# EAGLE library part HEADER-13P (library Deegou_Connector)
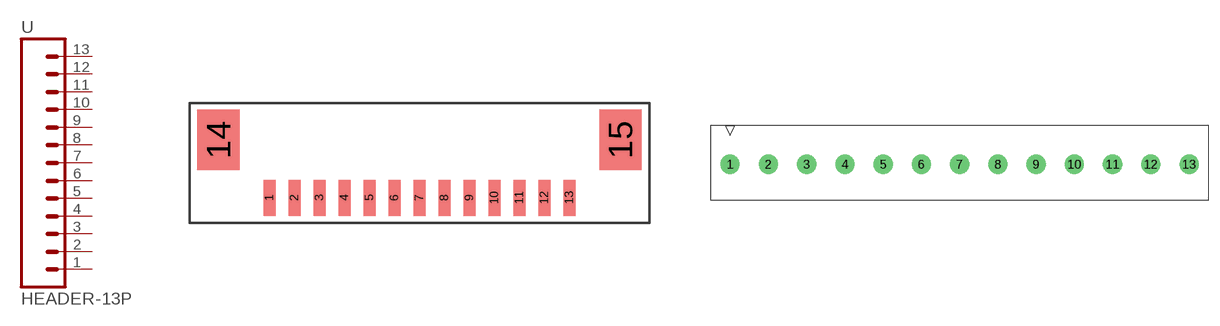
[diagram p13: symbol with the pads of 1.25MM-13P; footprints 1.25MM-13P, 13P-SCREW-5.08]

Designator prefix -

## HEADER-13P-1.25MM  [1.25MM-13P]
1  1  pas
2  2  pas
3  3  pas
4  4  pas
5  5  pas
6  6  pas
7  7  pas
8  8  pas
9  9  pas
10  10  pas
11  11  pas
12  12  pas
13  13  pas

## HEADER-13P  [13P-SCREW-5.08]
Pads as for 1.25MM-13P

## Footprint 1.25MM-13P (pad centres in mm)
smd 0.6 x 1.8: 1 -7.5,0; 2 -6.25,0; 3 -5,0; 4 -3.75,0; 5 -2.5,0; 6 -1.25,0; 7 0,0; 8 1.25,0; 9 2.5,0; 10 3.75,0; 11 5,0; 12 6.25,0; 13 7.5,0
smd 2.1 x 3: 14 -10.05,2.9; 15 10.05,2.9

## Footprint 13P-SCREW-5.08 (pad centres in mm)
drill 1.4 pad 2.54: 1 -25.4,0; 2 -20.32,0; 3 -15.24,0; 4 -10.16,0; 5 -5.08,0; 6 0,0; 7 5.08,0; 8 10.16,0; 9 15.24,0; 10 20.32,0; 11 25.4,0; 12 30.48,0; 13 35.56,0